# Altium footprint library FT-M6678DSK_28nm_0920.PcbLib: 78 footprints (part 1 of 6)
Each footprint in its own frame and in the unit in brackets; x right, y up, seen from the top. Pads: shape width x height; smd on the part's side, far side on the other; paste and mask are expansions set on the pad; w line width, h text height; cw(c..) or ccw(c..) is an arc to the next point about the centre after c.
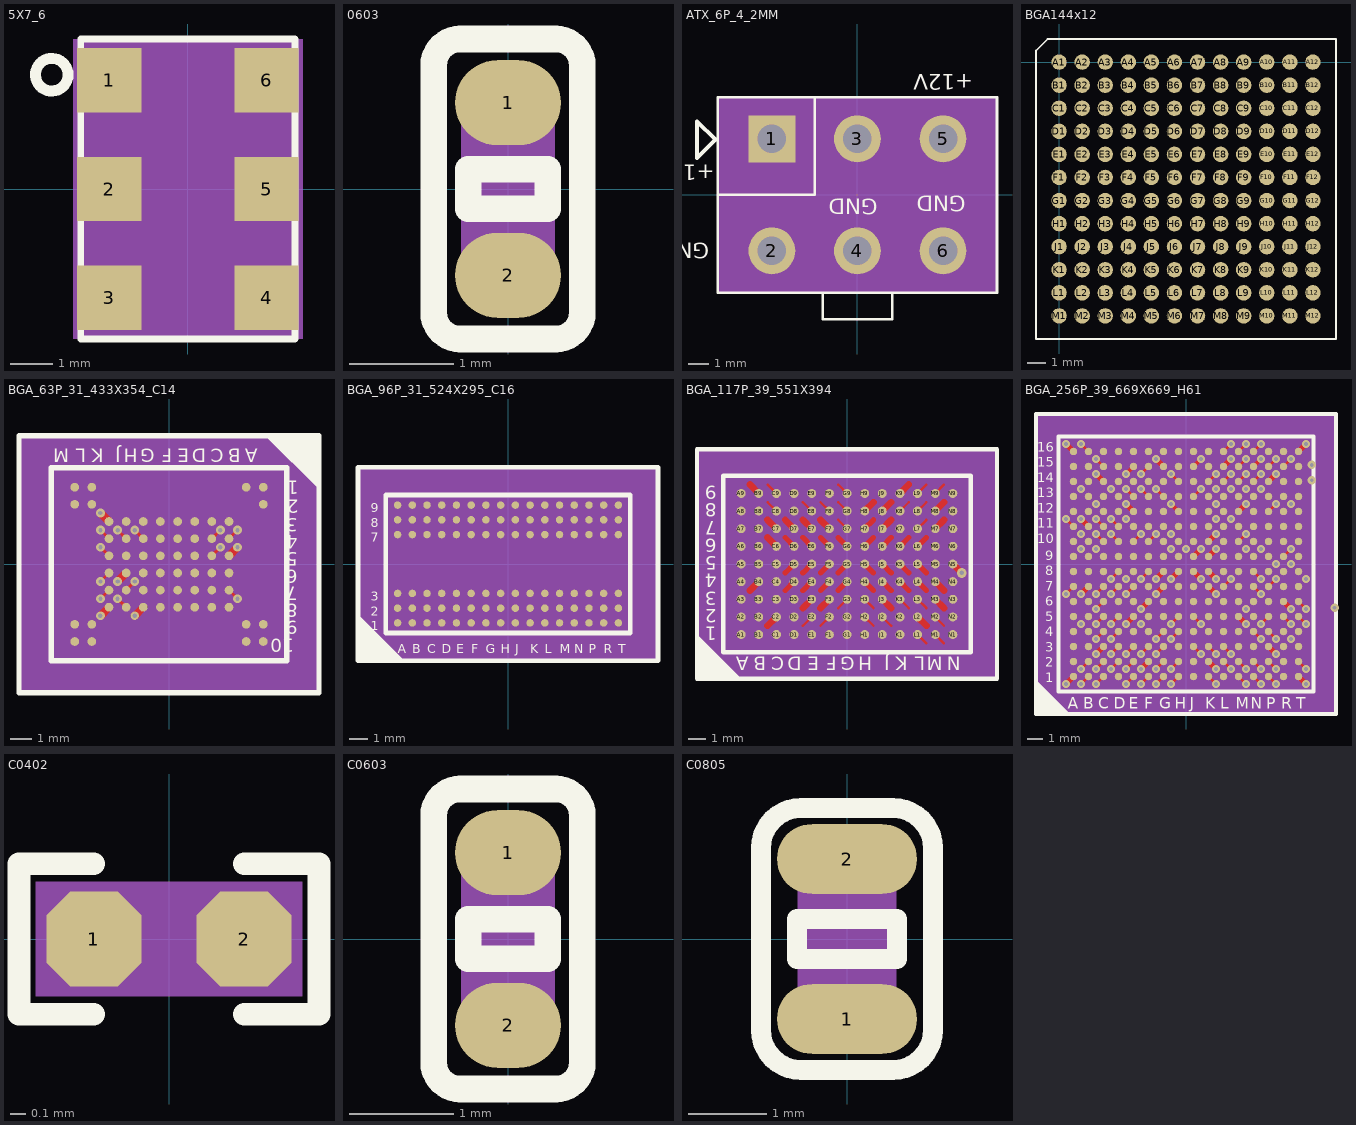
[diagram p0: the footprints below, top view; thin cyan lines are the x and y axes]

## 5X7_6 [mm] "5X7_6"
pads (6):
  rect 1.5x1.5 smd: 1(-1.837,2.54) 2(-1.837,0) 3(-1.837,-2.54) 4(1.837,-2.54) 5(1.837,0) 6(1.837,2.54)
Top Overlay:
  circle w0.254: c-3.175,2.667 r0.381
  lines w0.152: -2.5,-3.5 2.5,-3.5 2.5,3.5 -2.5,3.5 -2.5,-3.5
Mechanical 11:
  text "6" at 2.04,2.54 h0.51
  text "5" at 2.04,0 h0.51
  text "4" at 2.04,-2.54 h0.51
  text "3" at -1.634,-2.54 h0.51
  text "2" at -1.634,0 h0.51
  text "1" at -1.634,2.54 h0.51
Mechanical 15:
  region: -2.675,-3.5 2.675,-3.5 2.675,3.5 -2.675,3.5
Mechanical 16:
  pour cut-out: -2.675,-3.5 2.675,-3.5 2.675,3.5 -2.675,3.5
  lines w0.025: -2.5,-3.5 2.5,-3.5 2.5,3.5 -2.5,3.5 -2.5,-3.5
3D body: height 3.81, standoff 0, extent -2.675,-3.5 2.675,3.5

## 0603 [mil]
pads (2):
  oval 40x32 smd: 1(0,32.5) 2(0,-32.5)
Top Overlay:
  lines w10: -28,-46.5 ccw(c-18,-46.5) -18,-56.5 18,-56.5 ccw(c18,-46.5) 28,-46.5 28,46.5 ccw(c18,46.5) 18,56.5 -18,56.5 ccw(c-18,46.5) -28,46.5 -28,-46.5 ; -15,-7.5 -15,7.5 15,7.5 15,-7.5 -15,-7.5
Mechanical 11:
  text "1" at 4.72,32.5 h11.81
  text "2" at 4.72,-32.5 h11.81
Mechanical 12:
  lines w1: -17.13,-33.46 -17.13,33.46 17.13,33.46 17.13,-33.46 -17.13,-33.46
Mechanical 15:
  region: -17.13,-33.46 17.13,-33.46 17.13,33.46 -17.13,33.46
3D body: height 150, standoff 0, extent -17.13,-33.46 17.13,33.46

## ATX_6P_4_2MM [mm] "ATX_6P_4_2MM"
pads (6):
  rect 2.3x2.3 hole 1.4: 1(-4.2,2.75)
  round 2.3 hole 1.4: 2(-4.2,-2.75) 3(0,2.75) 4(0,-2.75) 5(4.2,2.75) 6(4.2,-2.75)
Top Overlay:
  lines w0.127: -6.85,0 -2.1,0 -2.1,4.8 ; -1.7,-4.8 -1.7,-6.1 1.7,-6.1 1.7,-4.8 ; -6.85,-4.8 6.85,-4.8 6.85,4.8 -6.85,4.8 -6.85,-4.8
  lines w0.2: -7.878,1.808 -7.878,3.608 -6.978,2.708 -7.878,1.808
  text "+12V" at 5.687,5.914 h0.76
  text "GND" at -7.267,-2.341 h0.76
  text "GND" at 0.988,-0.182 h0.76
  text "+12V" at -7.013,1.469 h0.76
  text "GND" at 5.306,-0.055 h0.76
Mechanical 11:
  text "1" at -4.08,2.75 h0.3
  text "3" at 0.12,2.75 h0.3
  text "5" at 4.32,2.75 h0.3
  text "2" at -4.08,-2.75 h0.3
  text "4" at 0.12,-2.75 h0.3
  text "6" at 4.32,-2.75 h0.3
Mechanical 15:
  region: -6.85,-4.8 6.85,-4.8 6.85,4.8 -6.85,4.8
3D body: height 3.81, standoff 0, extent -6.85,-4.8 6.85,4.8

## BGA144x12 [mm]
pads (144):
  round 0.85 smd: A1(0,0) A2(1.27,0) A3(2.54,0) A4(3.81,0) A5(5.08,0) A6(6.35,0) A7(7.62,0) A8(8.89,0) A9(10.16,0) A10(11.43,0) A11(12.7,0) A12(13.97,0) B1(0,-1.27) B2(1.27,-1.27) B3(2.54,-1.27) B4(3.81,-1.27) B5(5.08,-1.27) B6(6.35,-1.27) B7(7.62,-1.27) B8(8.89,-1.27) B9(10.16,-1.27) B10(11.43,-1.27) B11(12.7,-1.27) B12(13.97,-1.27) C1(0,-2.54) C2(1.27,-2.54) C3(2.54,-2.54) C4(3.81,-2.54) C5(5.08,-2.54) C6(6.35,-2.54) C7(7.62,-2.54) C8(8.89,-2.54) C9(10.16,-2.54) C10(11.43,-2.54) C11(12.7,-2.54) C12(13.97,-2.54) D1(0,-3.81) D2(1.27,-3.81) D3(2.54,-3.81) D4(3.81,-3.81) D5(5.08,-3.81) D6(6.35,-3.81) D7(7.62,-3.81) D8(8.89,-3.81) D9(10.16,-3.81) D10(11.43,-3.81) D11(12.7,-3.81) D12(13.97,-3.81) E1(0,-5.08) E2(1.27,-5.08) E3(2.54,-5.08) E4(3.81,-5.08) E5(5.08,-5.08) E6(6.35,-5.08) E7(7.62,-5.08) E8(8.89,-5.08) E9(10.16,-5.08) E10(11.43,-5.08) E11(12.7,-5.08) E12(13.97,-5.08) F1(0,-6.35) F2(1.27,-6.35) F3(2.54,-6.35) F4(3.81,-6.35) F5(5.08,-6.35) F6(6.35,-6.35) F7(7.62,-6.35) F8(8.89,-6.35) F9(10.16,-6.35) F10(11.43,-6.35) F11(12.7,-6.35) F12(13.97,-6.35) G1(0,-7.62) G2(1.27,-7.62) G3(2.54,-7.62) G4(3.81,-7.62) G5(5.08,-7.62) G6(6.35,-7.62) G7(7.62,-7.62) G8(8.89,-7.62) G9(10.16,-7.62) G10(11.43,-7.62) G11(12.7,-7.62) G12(13.97,-7.62) H1(0,-8.89) H2(1.27,-8.89) H3(2.54,-8.89) H4(3.81,-8.89) H5(5.08,-8.89) H6(6.35,-8.89) H7(7.62,-8.89) H8(8.89,-8.89) H9(10.16,-8.89) H10(11.43,-8.89) H11(12.7,-8.89) H12(13.97,-8.89) J1(0,-10.16) J2(1.27,-10.16) J3(2.54,-10.16) J4(3.81,-10.16) J5(5.08,-10.16) J6(6.35,-10.16) J7(7.62,-10.16) J8(8.89,-10.16) J9(10.16,-10.16) J10(11.43,-10.16) J11(12.7,-10.16) J12(13.97,-10.16) K1(0,-11.43) K2(1.27,-11.43) K3(2.54,-11.43) K4(3.81,-11.43) K5(5.08,-11.43) K6(6.35,-11.43) K7(7.62,-11.43) K8(8.89,-11.43) K9(10.16,-11.43) K10(11.43,-11.43) K11(12.7,-11.43) K12(13.97,-11.43) L1(0,-12.7) L2(1.27,-12.7) L3(2.54,-12.7) L4(3.81,-12.7) L5(5.08,-12.7) L6(6.35,-12.7) L7(7.62,-12.7) L8(8.89,-12.7) L9(10.16,-12.7) L10(11.43,-12.7) L11(12.7,-12.7) L12(13.97,-12.7) M1(0,-13.97) M2(1.27,-13.97) M3(2.54,-13.97) M4(3.81,-13.97) M5(5.08,-13.97) M6(6.35,-13.97) M7(7.62,-13.97) M8(8.89,-13.97) M9(10.16,-13.97) M10(11.43,-13.97) M11(12.7,-13.97) M12(13.97,-13.97)
Top Overlay:
  lines w0.1: -1.27,-15.24 -1.27,0.635 -0.635,1.27 15.24,1.27 15.24,-15.24 -1.27,-15.24

## BGA_63P_31_433X354_C14 [mil] "BGA_63P_31_433X354_C14"
pads (63):
  round 16 smd: A1(173.23,141.73) A2(173.23,110.24) A9(173.23,-110.24) A10(173.23,-141.73) B1(141.73,141.73) B9(141.73,-110.24) B10(141.73,-141.73) C3(110.24,78.74) C4(110.24,47.24) C5(110.24,15.75) C6(110.24,-15.75) C7(110.24,-47.24) C8(110.24,-78.74) D3(78.74,78.74) D4(78.74,47.24) D5(78.74,15.75) D6(78.74,-15.75) D7(78.74,-47.24) D8(78.74,-78.74) E3(47.24,78.74) E4(47.24,47.24) E5(47.24,15.75) E6(47.24,-15.75) E7(47.24,-47.24) E8(47.24,-78.74) F3(15.75,78.74) F4(15.75,47.24) F5(15.75,15.75) F6(15.75,-15.75) F7(15.75,-47.24) F8(15.75,-78.74) G3(-15.75,78.74) G4(-15.75,47.24) G5(-15.75,15.75) G6(-15.75,-15.75) G7(-15.75,-47.24) G8(-15.75,-78.74) H3(-47.24,78.74) H4(-47.24,47.24) H5(-47.24,15.75) H6(-47.24,-15.75) H7(-47.24,-47.24) H8(-47.24,-78.74) J3(-78.74,78.74) J4(-78.74,47.24) J5(-78.74,15.75) J6(-78.74,-15.75) J7(-78.74,-47.24) J8(-78.74,-78.74) K3(-110.24,78.74) K4(-110.24,47.24) K5(-110.24,15.75) K6(-110.24,-15.75) K7(-110.24,-47.24) K8(-110.24,-78.74) L1(-141.73,141.73) L2(-141.73,110.24) L9(-141.73,-110.24) L10(-141.73,-141.73) M1(-173.23,141.73) M2(-173.23,110.24) M9(-173.23,-110.24) M10(-173.23,-141.73)
via -125.98,62.98 diameter 16 hole 8
via -94.48,62.98 diameter 16 hole 8
via 94.48,31.49 diameter 16 hole 8
via 125.98,62.98 diameter 16 hole 8
via -62.98,62.98 diameter 16 hole 8
via -94.49,-62.99 diameter 16 hole 8
via -125.98,-62.98 diameter 16 hole 8
via -62.98,-31.48 diameter 16 hole 8
via -125.98,-31.49 diameter 16 hole 8
via -125.98,31.49 diameter 16 hole 8
via -94.48,-31.49 diameter 16 hole 8
via -62.98,-94.48 diameter 16 hole 8
via -125.99,94.49 diameter 16 hole 8
via -125.99,-94.49 diameter 16 hole 8
via 125.98,31.49 diameter 16 hole 8
via 125.98,-62.98 diameter 16 hole 8
via 94.48,62.98 diameter 16 hole 8
Top Layer:
  lines w5.4: -125.98,-62.98 -110.24,-47.24 ; -125.98,-31.49 -110.24,-15.75 ; -125.98,31.49 -110.24,15.75 ; -125.98,62.98 -110.24,47.24 ; -94.49,-62.99 -78.74,-78.74 ; -94.48,62.98 -78.74,47.24 ; -78.74,-47.24 -62.98,-31.48 ; -62.98,62.98 -47.24,47.24 ; 78.74,15.75 94.48,31.49 ; 78.74,47.24 94.48,62.98 ; 110.24,-47.24 125.98,-62.98 ; 110.24,47.24 125.98,62.98
  lines w15: -125.99,-94.49 -110.24,-78.74 ; -125.99,94.49 -110.24,78.74 ; -94.48,-31.49 -78.74,-15.75 ; -62.98,-94.48 -47.24,-78.74 ; 110.24,15.75 125.98,31.49
Top Overlay:
  pour cut-out: 275.59,236.22 177.17,236.22 275.59,137.8
  lines w10: -275.59,-236.22 -275.59,236.22 275.59,236.22 275.59,-236.22 -275.59,-236.22 ; -216.54,-177.17 -216.54,177.17 216.54,177.17 216.54,-177.17 -216.54,-177.17
  text "A" at 163.23,212.6 h25
  text "1" at 238.33,153.33 h25
  text "B" at 131.73,212.6 h25
  text "C" at 100.24,212.6 h25
  text "D" at 68.74,212.6 h25
  text "E" at 37.24,212.6 h25
  text "F" at 5.75,212.6 h25
  text "G" at -25.75,212.6 h25
  text "H" at -57.24,212.6 h25
  text "J" at -88.74,212.6 h25
  text "K" at -120.24,212.6 h25
  text "L" at -151.73,212.6 h25
  text "M" at -183.23,212.6 h25
  text "2" at 238.33,118.33 h25
  text "3" at 236.36,84.94 h25
  text "4" at 236.36,53.45 h25
  text "5" at 236.36,21.95 h25
  text "6" at 236.36,-9.54 h25
  text "7" at 236.36,-41.04 h25
  text "8" at 236.36,-72.54 h25
  text "9" at 236.36,-104.03 h25
  text "10" at 230,-136.67 h25
Mechanical 1:
  lines w1: -216.54,-177.17 216.54,-177.17 216.54,177.17 -216.54,177.17 -216.54,-177.17
Mechanical 11:
  text "A1" at 153.23,141.73 h25
  text "L9" at -161.73,-110.24 h25
  text "L10" at -171.73,-141.73 h25
  text "M1" at -193.23,141.73 h25
  text "M2" at -193.23,110.24 h25
  text "M9" at -193.23,-110.24 h25
  text "M10" at -203.23,-141.73 h25
  text "A2" at 153.23,110.24 h25
  text "A9" at 153.23,-110.24 h25
  text "A10" at 143.23,-141.73 h25
  text "B1" at 121.73,141.73 h25
  text "B9" at 121.73,-110.24 h25
  text "B10" at 111.73,-141.73 h25
  text "L1" at -161.73,141.73 h25
  text "L2" at -161.73,110.24 h25
  text "D3" at 58.74,78.74 h25
  text "E8" at 27.24,-78.74 h25
  text "F3" at -4.25,78.74 h25
  text "F4" at -4.25,47.24 h25
  text "F5" at -4.25,15.75 h25
  text "F6" at -4.25,-15.75 h25
  text "F7" at -4.25,-47.24 h25
  text "F8" at -4.25,-78.74 h25
  text "G3" at -35.75,78.74 h25
  text "G4" at -35.75,47.24 h25
  text "G5" at -35.75,15.75 h25
  text "D6" at 58.74,-15.75 h25
  text "G6" at -35.75,-15.75 h25
  text "G7" at -35.75,-47.24 h25
  text "G8" at -35.75,-78.74 h25
  text "H3" at -67.24,78.74 h25
  text "H5" at -67.24,15.75 h25
  text "H6" at -67.24,-15.75 h25
  text "H7" at -67.24,-47.24 h25
  text "J3" at -98.74,78.74 h25
  text "J5" at -98.74,15.75 h25
  text "D7" at 58.74,-47.24 h25
  text "D8" at 58.74,-78.74 h25
  text "E3" at 27.24,78.74 h25
  text "E4" at 27.24,47.24 h25
  text "E5" at 27.24,15.75 h25
  text "E6" at 27.24,-15.75 h25
  text "E7" at 27.24,-47.24 h25
  text "K4" at -130.24,47.24 h25
  text "J4" at -98.74,47.24 h25
  text "D5" at 58.74,15.75 h25
  text "C4" at 90.24,47.24 h25
  text "H4" at -67.24,47.24 h25
  text "J8" at -98.74,-78.74 h25
  text "K7" at -130.24,-47.24 h25
  text "J7" at -98.74,-47.24 h25
  text "K6" at -130.24,-15.75 h25
  text "K5" at -130.24,15.75 h25
  text "H8" at -67.24,-78.74 h25
  text "J6" at -98.74,-15.75 h25
  text "C8" at 90.24,-78.74 h25
  text "C3" at 90.24,78.74 h25
  text "C6" at 90.24,-15.75 h25
  text "K8" at -130.24,-78.74 h25
  text "C5" at 90.24,15.75 h25
  text "K3" at -130.24,78.74 h25
  text "C7" at 90.24,-47.24 h25
  text "D4" at 58.74,47.24 h25
Mechanical 12:
  lines w1: -275.59,-236.22 -275.59,236.22 275.59,236.22 275.59,-236.22 -275.59,-236.22
Mechanical 13:
  region: 275.59,236.22 275.59,-236.22 -275.59,-236.22 -275.59,236.22
Mechanical 14:
  text ".Designator" at -40,0 h50
3D body: height 150, standoff 0, extent -275.59,-236.22 275.59,236.22

## BGA_96P_31_524X295_C16 [mil] "BGA_96P_31_524X295_C16"
pads (96):
  round 16 smd: A1(-236.22,-125.98) A2(-236.22,-94.49) A3(-236.22,-62.99) A7(-236.22,62.99) A8(-236.22,94.49) A9(-236.22,125.98) B1(-204.72,-125.98) B2(-204.72,-94.49) B3(-204.72,-62.99) B7(-204.72,62.99) B8(-204.72,94.49) B9(-204.72,125.98) C1(-173.23,-125.98) C2(-173.23,-94.49) C3(-173.23,-62.99) C7(-173.23,62.99) C8(-173.23,94.49) C9(-173.23,125.98) D1(-141.73,-125.98) D2(-141.73,-94.49) D3(-141.73,-62.99) D7(-141.73,62.99) D8(-141.73,94.49) D9(-141.73,125.98) E1(-110.24,-125.98) E2(-110.24,-94.49) E3(-110.24,-62.99) E7(-110.24,62.99) E8(-110.24,94.49) E9(-110.24,125.98) F1(-78.74,-125.98) F2(-78.74,-94.49) F3(-78.74,-62.99) F7(-78.74,62.99) F8(-78.74,94.49) F9(-78.74,125.98) G1(-47.24,-125.98) G2(-47.24,-94.49) G3(-47.24,-62.99) G7(-47.24,62.99) G8(-47.24,94.49) G9(-47.24,125.98) H1(-15.75,-125.98) H2(-15.75,-94.49) H3(-15.75,-62.99) H7(-15.75,62.99) H8(-15.75,94.49) H9(-15.75,125.98) J1(15.75,-125.98) J2(15.75,-94.49) J3(15.75,-62.99) J7(15.75,62.99) J8(15.75,94.49) J9(15.75,125.98) K1(47.24,-125.98) K2(47.24,-94.49) K3(47.24,-62.99) K7(47.24,62.99) K8(47.24,94.49) K9(47.24,125.98) L1(78.74,-125.98) L2(78.74,-94.49) L3(78.74,-62.99) L7(78.74,62.99) L8(78.74,94.49) L9(78.74,125.98) M1(110.24,-125.98) M2(110.24,-94.49) M3(110.24,-62.99) M7(110.24,62.99) M8(110.24,94.49) M9(110.24,125.98) N1(141.73,-125.98) N2(141.73,-94.49) N3(141.73,-62.99) N7(141.73,62.99) N8(141.73,94.49) N9(141.73,125.98) P1(173.23,-125.98) P2(173.23,-94.49) P3(173.23,-62.99) P7(173.23,62.99) P8(173.23,94.49) P9(173.23,125.98) R1(204.72,-125.98) R2(204.72,-94.49) R3(204.72,-62.99) R7(204.72,62.99) R8(204.72,94.49) R9(204.72,125.98) T1(236.22,-125.98) T2(236.22,-94.49) T3(236.22,-62.99) T7(236.22,62.99) T8(236.22,94.49) T9(236.22,125.98)
Top Overlay:
  pour cut-out: -320.87,-206.69 -222.44,-206.69 -320.87,-108.27
  lines w10: -320.87,-206.69 320.87,-206.69 320.87,206.69 -320.87,206.69 -320.87,-206.69 ; -261.81,-147.64 261.81,-147.64 261.81,147.64 -261.81,147.64 -261.81,-147.64
  text "A" at -236.22,-190.95 h19.69
  text "1" at -293.31,-141.74 h19.69
  text "B" at -204.72,-190.95 h19.69
  text "C" at -173.23,-190.95 h19.69
  text "D" at -141.73,-190.95 h19.69
  text "E" at -110.24,-190.95 h19.69
  text "F" at -78.74,-190.95 h19.69
  text "G" at -47.24,-190.95 h19.69
  text "H" at -15.75,-190.95 h19.69
  text "J" at 15.75,-190.95 h19.69
  text "K" at 47.24,-190.95 h19.69
  text "L" at 78.74,-190.95 h19.69
  text "M" at 110.24,-190.95 h19.69
  text "N" at 141.73,-190.95 h19.69
  text "P" at 173.23,-190.95 h19.69
  text "R" at 204.72,-190.95 h19.69
  text "T" at 236.22,-190.95 h19.69
  text "2" at -293.31,-110.24 h19.69
  text "3" at -293.31,-78.75 h19.69
  text "7" at -293.31,47.24 h19.69
  text "8" at -293.31,78.73 h19.69
  text "9" at -293.31,110.23 h19.69
Mechanical 1:
  lines w1: -261.81,-147.64 261.81,-147.64 261.81,147.64 -261.81,147.64 -261.81,-147.64
Mechanical 11:
  text "L8" at 78.74,85.04 h11.81
  text "M2" at 110.24,-103.94 h11.81
  text "C2" at -173.23,-103.94 h11.81
  text "A7" at -236.22,53.54 h11.81
  text "L7" at 78.74,53.54 h11.81
  text "A2" at -236.22,-103.94 h11.81
  text "R7" at 204.72,53.54 h11.81
  text "B8" at -204.72,85.04 h11.81
  text "N7" at 141.73,53.54 h11.81
  text "A3" at -236.22,-72.44 h11.81
  text "K3" at 47.24,-72.44 h11.81
  text "F3" at -78.74,-72.44 h11.81
  text "L3" at 78.74,-72.44 h11.81
  text "H3" at -15.75,-72.44 h11.81
  text "J3" at 15.75,-72.44 h11.81
  text "N2" at 141.73,-103.94 h11.81
  text "H8" at -15.75,85.04 h11.81
  text "P8" at 173.23,85.04 h11.81
  text "J7" at 15.75,53.54 h11.81
  text "K9" at 47.24,116.53 h11.81
  text "G2" at -47.24,-103.94 h11.81
  text "P2" at 173.23,-103.94 h11.81
  text "L2" at 78.74,-103.94 h11.81
  text "M8" at 110.24,85.04 h11.81
  text "H1" at -15.75,-135.43 h11.81
  text "H7" at -15.75,53.54 h11.81
  text "T9" at 236.22,116.53 h11.81
  text "P9" at 173.23,116.53 h11.81
  text "M9" at 110.24,116.53 h11.81
  text "G9" at -47.24,116.53 h11.81
  text "F9" at -78.74,116.53 h11.81
  text "B9" at -204.72,116.53 h11.81
  text "A9" at -236.22,116.53 h11.81
  text "J8" at 15.75,85.04 h11.81
  text "G8" at -47.24,85.04 h11.81
  text "E8" at -110.24,85.04 h11.81
  text "D8" at -141.73,85.04 h11.81
  text "B3" at -204.72,-72.44 h11.81
  text "J2" at 15.75,-103.94 h11.81
  text "E2" at -110.24,-103.94 h11.81
  text "T1" at 236.22,-135.43 h11.81
  text "P1" at 173.23,-135.43 h11.81
  text "M1" at 110.24,-135.43 h11.81
  text "G1" at -47.24,-135.43 h11.81
  text "E1" at -110.24,-135.43 h11.81
  text "D1" at -141.73,-135.43 h11.81
  text "B1" at -204.72,-135.43 h11.81
  text "K7" at 47.24,53.54 h11.81
  text "E7" at -110.24,53.54 h11.81
  text "K1" at 47.24,-135.43 h11.81
  text "R8" at 204.72,85.04 h11.81
  text "D3" at -141.73,-72.44 h11.81
  text "R2" at 204.72,-103.94 h11.81
  text "D7" at -141.73,53.54 h11.81
  text "C3" at -173.23,-72.44 h11.81
  text "E3" at -110.24,-72.44 h11.81
  text "N3" at 141.73,-72.44 h11.81
  text "M7" at 110.24,53.54 h11.81
  text "F7" at -78.74,53.54 h11.81
  text "T3" at 236.22,-72.44 h11.81
  text "T2" at 236.22,-103.94 h11.81
  text "F2" at -78.74,-103.94 h11.81
  text "P7" at 173.23,53.54 h11.81
  text "G3" at -47.24,-72.44 h11.81
  text "F8" at -78.74,85.04 h11.81
  text "P3" at 173.23,-72.44 h11.81
  text "C7" at -173.23,53.54 h11.81
  text "B7" at -204.72,53.54 h11.81
  text "N8" at 141.73,85.04 h11.81
  text "R9" at 204.72,116.53 h11.81
  text "N9" at 141.73,116.53 h11.81
  text "H9" at -15.75,116.53 h11.81
  text "E9" at -110.24,116.53 h11.81
  text "D9" at -141.73,116.53 h11.81
  text "C9" at -173.23,116.53 h11.81
  text "K8" at 47.24,85.04 h11.81
  text "A8" at -236.22,85.04 h11.81
  text "G7" at -47.24,53.54 h11.81
  text "K2" at 47.24,-103.94 h11.81
  text "H2" at -15.75,-103.94 h11.81
  text "D2" at -141.73,-103.94 h11.81
  text "B2" at -204.72,-103.94 h11.81
  text "R1" at 204.72,-135.43 h11.81
  text "N1" at 141.73,-135.43 h11.81
  text "F1" at -78.74,-135.43 h11.81
  text "C1" at -173.23,-135.43 h11.81
  text "A1" at -236.22,-135.43 h11.81
  text "T8" at 236.22,85.04 h11.81
  text "T7" at 236.22,53.54 h11.81
  text "M3" at 110.24,-72.44 h11.81
  text "R3" at 204.72,-72.44 h11.81
  text "C8" at -173.23,85.04 h11.81
  text "L9" at 78.74,116.53 h11.81
  text "L1" at 78.74,-135.43 h11.81
  text "J9" at 15.75,116.53 h11.81
  text "J1" at 15.75,-135.43 h11.81
Mechanical 12:
  lines w1: -320.87,-206.69 320.87,-206.69 320.87,206.69 -320.87,206.69 -320.87,-206.69
Mechanical 15:
  region: -320.87,-206.69 320.87,-206.69 320.87,206.69 -320.87,206.69
3D body: height 150, standoff 0, extent -320.87,-206.69 320.87,206.69

## BGA_117P_39_551X394 [mil] "BGA_117P_39_551X394"
pads (117):
  round 20 smd: A1(-236.22,-157.48) A2(-236.22,-118.11) A3(-236.22,-78.74) A4(-236.22,-39.37) A5(-236.22,0) A6(-236.22,39.37) A7(-236.22,78.74) A8(-236.22,118.11) A9(-236.22,157.48) B1(-196.85,-157.48) B2(-196.85,-118.11) B3(-196.85,-78.74) B4(-196.85,-39.37) B5(-196.85,0) B6(-196.85,39.37) B7(-196.85,78.74) B8(-196.85,118.11) B9(-196.85,157.48) C1(-157.48,-157.48) C2(-157.48,-118.11) C3(-157.48,-78.74) C4(-157.48,-39.37) C5(-157.48,0) C6(-157.48,39.37) C7(-157.48,78.74) C8(-157.48,118.11) C9(-157.48,157.48) D1(-118.11,-157.48) D2(-118.11,-118.11) D3(-118.11,-78.74) D4(-118.11,-39.37) D5(-118.11,0) D6(-118.11,39.37) D7(-118.11,78.74) D8(-118.11,118.11) D9(-118.11,157.48) E1(-78.74,-157.48) E2(-78.74,-118.11) E3(-78.74,-78.74) E4(-78.74,-39.37) E5(-78.74,0) E6(-78.74,39.37) E7(-78.74,78.74) E8(-78.74,118.11) E9(-78.74,157.48) F1(-39.37,-157.48) F2(-39.37,-118.11) F3(-39.37,-78.74) F4(-39.37,-39.37) F5(-39.37,0) F6(-39.37,39.37) F7(-39.37,78.74) F8(-39.37,118.11) F9(-39.37,157.48) G1(0,-157.48) G2(0,-118.11) G3(0,-78.74) G4(0,-39.37) G5(0,0) G6(0,39.37) G7(0,78.74) G8(0,118.11) G9(0,157.48) H1(39.37,-157.48) H2(39.37,-118.11) H3(39.37,-78.74) H4(39.37,-39.37) H5(39.37,0) H6(39.37,39.37) H7(39.37,78.74) H8(39.37,118.11) H9(39.37,157.48) J1(78.74,-157.48) J2(78.74,-118.11) J3(78.74,-78.74) J4(78.74,-39.37) J5(78.74,0) J6(78.74,39.37) J7(78.74,78.74) J8(78.74,118.11) J9(78.74,157.48) K1(118.11,-157.48) K2(118.11,-118.11) K3(118.11,-78.74) K4(118.11,-39.37) K5(118.11,0) K6(118.11,39.37) K7(118.11,78.74) K8(118.11,118.11) K9(118.11,157.48) L1(157.48,-157.48) L2(157.48,-118.11) L3(157.48,-78.74) L4(157.48,-39.37) L5(157.48,0) L6(157.48,39.37) L7(157.48,78.74) L8(157.48,118.11) L9(157.48,157.48) M1(196.85,-157.48) M2(196.85,-118.11) M3(196.85,-78.74) M4(196.85,-39.37) M5(196.85,0) M6(196.85,39.37) M7(196.85,78.74) M8(196.85,118.11) M9(196.85,157.48) N1(236.22,-157.48) N2(236.22,-118.11) N3(236.22,-78.74) N4(236.22,-39.37) N5(236.22,0) N6(236.22,39.37) N7(236.22,78.74) N8(236.22,118.11) N9(236.22,157.48)
via 255.9,-19.68 diameter 22 hole 10
Top Layer:
  lines w5.2: -177.16,137.79 -157.48,118.11 ; -177.16,177.16 -157.48,157.48 ; -98.42,-137.79 -78.74,-118.11 ; -98.42,137.79 -78.74,118.11 ; -59.05,-137.79 -39.37,-118.11 ; -59.05,137.79 -39.37,118.11 ; -19.68,-98.42 0,-78.74 ; -19.68,98.42 0,78.74 ; -19.68,137.79 0,118.11 ; -19.68,177.16 0,157.48 ; 39.37,-118.11 59.05,-137.79 ; 39.37,-78.74 59.05,-98.42 ; 78.74,-118.11 98.42,-137.79 ; 118.11,-78.74 137.79,-98.42 ; 118.11,118.11 137.79,137.79 ; 157.48,-157.48 177.16,-177.16 ; 157.48,-78.74 177.16,-98.42 ; 157.48,78.74 177.16,98.42 ; 157.48,118.11 177.16,137.79 ; 157.48,157.48 177.16,177.16 ; 196.85,-157.48 216.53,-177.16 ; 196.85,-118.11 216.53,-137.79 ; 196.85,157.48 216.53,177.16
  lines w12: -137.79,-59.05 -118.11,-39.37 ; -137.79,-19.68 -118.11,0 ; -137.79,59.05 -118.11,39.37 ; -98.42,-59.05 -78.74,-39.37 ; -98.42,-19.68 -78.74,0 ; -98.42,59.05 -78.74,39.37 ; -59.05,-59.05 -39.37,-39.37 ; -59.05,-19.68 -39.37,0 ; -59.05,59.05 -39.37,39.37 ; -19.68,-59.05 0,-39.37 ; -19.68,-19.68 0,0 ; -19.68,59.05 0,39.37 ; 39.37,-39.37 59.05,-59.05 ; 39.37,0 59.05,-19.68 ; 39.37,39.37 59.05,59.05 ; 39.37,78.74 59.05,98.42 ; 78.74,-39.37 98.42,-59.05 ; 78.74,0 98.42,-19.68 ; 78.74,39.37 98.42,59.05 ; 118.11,-39.37 137.79,-59.05 ; 118.11,0 137.79,-19.68 ; 118.11,39.37 137.79,59.05 ; 157.48,-39.37 177.16,-59.05 ; 157.48,0 177.16,-19.68 ; 157.48,39.37 177.16,59.05
  lines w15: -216.53,-59.05 -196.85,-39.37 ; -216.53,177.16 -196.85,157.48 ; -177.16,-137.79 -157.48,-118.11 ; -177.16,59.05 -157.48,39.37 ; -177.16,98.42 -157.48,78.74 ; -137.79,98.42 -118.11,78.74 ; -98.42,-98.42 -78.74,-78.74 ; -98.42,98.42 -78.74,78.74 ; -59.05,-98.42 -39.37,-78.74 ; -59.05,98.42 -39.37,78.74 ; 39.37,118.11 59.05,137.79 ; 78.74,-78.74 98.42,-98.42 ; 78.74,78.74 98.42,98.42 ; 78.74,118.11 98.42,137.79 ; 118.11,157.48 137.79,177.16 ; 157.48,-118.11 177.16,-137.79 ; 196.85,-78.74 216.53,-98.42 ; 196.85,-39.37 216.53,-59.05 ; 196.85,78.74 216.53,98.42 ; 196.85,118.11 216.53,137.79 ; 236.22,0 255.9,-19.68
Top Overlay:
  pour cut-out: -334.65,-255.91 -236.22,-255.91 -334.65,-157.48
  lines w10: -334.65,-255.91 -334.65,255.91 334.65,255.91 334.65,-255.91 -334.65,-255.91 ; -275.59,-196.85 -275.59,196.85 275.59,196.85 275.59,-196.85 -275.59,-196.85
  text "9" at -290.09,174.61 h30
  text "8" at -290.09,135.24 h30
  text "7" at -290.09,95.87 h30
  text "6" at -290.09,56.5 h30
  text "5" at -290.09,17.13 h30
  text "4" at -290.09,-22.24 h30
  text "3" at -290.09,-61.61 h30
  text "2" at -290.09,-100.98 h30
  text "N" at 253.22,-207.28 h30
  text "M" at 213.85,-207.28 h30
  text "L" at 174.48,-207.28 h30
  text "K" at 135.11,-207.28 h30
  text "J" at 95.74,-207.28 h30
  text "H" at 56.37,-207.28 h30
  text "G" at 17,-207.28 h30
  text "F" at -22.37,-207.28 h30
  text "E" at -61.74,-207.28 h30
  text "D" at -101.11,-207.28 h30
  text "C" at -140.48,-207.28 h30
  text "B" at -179.85,-207.28 h30
  text "1" at -290.09,-140.35 h30
  text "A" at -219.22,-207.28 h30
Mechanical 1:
  lines w1: -275.59,-196.85 -275.59,196.85 275.59,196.85 275.59,-196.85 -275.59,-196.85
Mechanical 11:
  text "B5" at -187.4,0 h11.81
  text "M5" at 206.3,0 h11.81
  text "M6" at 206.3,39.37 h11.81
  text "G1" at 9.45,-157.48 h11.81
  text "K7" at 127.56,78.74 h11.81
  text "B2" at -187.4,-118.11 h11.81
  text "D3" at -108.66,-78.74 h11.81
  text "C3" at -148.03,-78.74 h11.81
  text "B3" at -187.4,-78.74 h11.81
  text "C4" at -148.03,-39.37 h11.81
  text "A1" at -226.77,-157.48 h11.81
  text "A2" at -226.77,-118.11 h11.81
  text "C5" at -148.03,0 h11.81
  text "C1" at -148.03,-157.48 h11.81
  text "B1" at -187.4,-157.48 h11.81
  text "D2" at -108.66,-118.11 h11.81
  text "F8" at -29.92,118.11 h11.81
  text "D8" at -108.66,118.11 h11.81
  text "A8" at -226.77,118.11 h11.81
  text "J1" at 88.19,-157.48 h11.81
  text "A7" at -226.77,78.74 h11.81
  text "G8" at 9.45,118.11 h11.81
  text "E8" at -69.29,118.11 h11.81
  text "K8" at 127.56,118.11 h11.81
  text "G7" at 9.45,78.74 h11.81
  text "F1" at -29.92,-157.48 h11.81
  text "A3" at -226.77,-78.74 h11.81
  text "H3" at 48.82,-78.74 h11.81
  text "H8" at 48.82,118.11 h11.81
  text "E2" at -69.29,-118.11 h11.81
  text "A4" at -226.77,-39.37 h11.81
  text "M9" at 206.3,157.48 h11.81
  text "M2" at 206.3,-118.11 h11.81
  text "E1" at -69.29,-157.48 h11.81
  text "G2" at 9.45,-118.11 h11.81
  text "G9" at 9.45,157.48 h11.81
  text "E9" at -69.29,157.48 h11.81
  text "M3" at 206.3,-78.74 h11.81
  text "M4" at 206.3,-39.37 h11.81
  text "N5" at 245.67,0 h11.81
  text "B7" at -187.4,78.74 h11.81
  text "M7" at 206.3,78.74 h11.81
  text "M8" at 206.3,118.11 h11.81
  text "D9" at -108.66,157.48 h11.81
  text "K3" at 127.56,-78.74 h11.81
  text "F2" at -29.92,-118.11 h11.81
  text "H9" at 48.82,157.48 h11.81
  text "G3" at 9.45,-78.74 h11.81
  text "B6" at -187.4,39.37 h11.81
  text "L7" at 166.93,78.74 h11.81
  text "C8" at -148.03,118.11 h11.81
  text "K2" at 127.56,-118.11 h11.81
  text "F9" at -29.92,157.48 h11.81
  text "H1" at 48.82,-157.48 h11.81
  text "A5" at -226.77,0 h11.81
  text "L8" at 166.93,118.11 h11.81
  text "A6" at -226.77,39.37 h11.81
  text "J2" at 88.19,-118.11 h11.81
  text "L9" at 166.93,157.48 h11.81
  text "H2" at 48.82,-118.11 h11.81
  text "J9" at 88.19,157.48 h11.81
  text "D1" at -108.66,-157.48 h11.81
  text "E3" at -69.29,-78.74 h11.81
  text "F3" at -29.92,-78.74 h11.81
  text "J3" at 88.19,-78.74 h11.81
  text "C6" at -148.03,39.37 h11.81
  text "C7" at -148.03,78.74 h11.81
  text "D7" at -108.66,78.74 h11.81
  text "E7" at -69.29,78.74 h11.81
  text "J7" at 88.19,78.74 h11.81
  text "B8" at -187.4,118.11 h11.81
  text "N2" at 245.67,-118.11 h11.81
  text "N1" at 245.67,-157.48 h11.81
  text "D4" at -108.66,-39.37 h11.81
  text "E4" at -69.29,-39.37 h11.81
  text "F4" at -29.92,-39.37 h11.81
  text "G4" at 9.45,-39.37 h11.81
  text "H4" at 48.82,-39.37 h11.81
  text "J4" at 88.19,-39.37 h11.81
  text "K4" at 127.56,-39.37 h11.81
  text "L4" at 166.93,-39.37 h11.81
  text "D5" at -108.66,0 h11.81
  text "E5" at -69.29,0 h11.81
  text "F5" at -29.92,0 h11.81
  text "G5" at 9.45,0 h11.81
  text "H5" at 48.82,0 h11.81
  text "J5" at 88.19,0 h11.81
  text "K5" at 127.56,0 h11.81
  text "L5" at 166.93,0 h11.81
  text "D6" at -108.66,39.37 h11.81
  text "E6" at -69.29,39.37 h11.81
  text "F6" at -29.92,39.37 h11.81
  text "G6" at 9.45,39.37 h11.81
  text "H6" at 48.82,39.37 h11.81
  text "J6" at 88.19,39.37 h11.81
  text "K6" at 127.56,39.37 h11.81
  text "L6" at 166.93,39.37 h11.81
  text "H7" at 48.82,78.74 h11.81
  text "N6" at 245.67,39.37 h11.81
  text "C9" at -148.03,157.48 h11.81
  text "A9" at -226.77,157.48 h11.81
  text "N3" at 245.67,-78.74 h11.81
  text "L1" at 166.93,-157.48 h11.81
  text "N8" at 245.67,118.11 h11.81
  text "N4" at 245.67,-39.37 h11.81
  text "N9" at 245.67,157.48 h11.81
  text "N7" at 245.67,78.74 h11.81
  text "K1" at 127.56,-157.48 h11.81
  text "C2" at -148.03,-118.11 h11.81
  text "L2" at 166.93,-118.11 h11.81
  text "B4" at -187.4,-39.37 h11.81
  text "F7" at -29.92,78.74 h11.81
  text "J8" at 88.19,118.11 h11.81
  text "B9" at -187.4,157.48 h11.81
  text "K9" at 127.56,157.48 h11.81
  text "L3" at 166.93,-78.74 h11.81
  text "M1" at 206.3,-157.48 h11.81
Mechanical 12:
  lines w1: -334.65,-255.91 -334.65,255.91 334.65,255.91 334.65,-255.91 -334.65,-255.91
Mechanical 15:
  region: -334.65,-255.91 334.65,-255.91 334.65,255.91 -334.65,255.91
3D body: height 150, standoff 0, extent -334.65,-255.91 334.65,255.91

## BGA_256P_39_669X669_H61 [mm] "BGA_256P_39_669X669_H61"
pads (256):
  round 0.5 smd: A1(-7.5,-7.5) A2(-7.5,-6.5) A3(-7.5,-5.5) A4(-7.5,-4.5) A5(-7.5,-3.5) A6(-7.5,-2.5) A7(-7.5,-1.5) A8(-7.5,-0.5) A9(-7.5,0.5) A10(-7.5,1.5) A11(-7.5,2.5) A12(-7.5,3.5) A13(-7.5,4.5) A14(-7.5,5.5) A15(-7.5,6.5) A16(-7.5,7.5) B1(-6.5,-7.5) B2(-6.5,-6.5) B3(-6.5,-5.5) B4(-6.5,-4.5) B5(-6.5,-3.5) B6(-6.5,-2.5) B7(-6.5,-1.5) B8(-6.5,-0.5) B9(-6.5,0.5) B10(-6.5,1.5) B11(-6.5,2.5) B12(-6.5,3.5) B13(-6.5,4.5) B14(-6.5,5.5) B15(-6.5,6.5) B16(-6.5,7.5) C1(-5.5,-7.5) C2(-5.5,-6.5) C3(-5.5,-5.5) C4(-5.5,-4.5) C5(-5.5,-3.5) C6(-5.5,-2.5) C7(-5.5,-1.5) C8(-5.5,-0.5) C9(-5.5,0.5) C10(-5.5,1.5) C11(-5.5,2.5) C12(-5.5,3.5) C13(-5.5,4.5) C14(-5.5,5.5) C15(-5.5,6.5) C16(-5.5,7.5) D1(-4.5,-7.5) D2(-4.5,-6.5) D3(-4.5,-5.5) D4(-4.5,-4.5) D5(-4.5,-3.5) D6(-4.5,-2.5) D7(-4.5,-1.5) D8(-4.5,-0.5) D9(-4.5,0.5) D10(-4.5,1.5) D11(-4.5,2.5) D12(-4.5,3.5) D13(-4.5,4.5) D14(-4.5,5.5) D15(-4.5,6.5) D16(-4.5,7.5) E1(-3.5,-7.5) E2(-3.5,-6.5) E3(-3.5,-5.5) E4(-3.5,-4.5) E5(-3.5,-3.5) E6(-3.5,-2.5) E7(-3.5,-1.5) E8(-3.5,-0.5) E9(-3.5,0.5) E10(-3.5,1.5) E11(-3.5,2.5) E12(-3.5,3.5) E13(-3.5,4.5) E14(-3.5,5.5) E15(-3.5,6.5) E16(-3.5,7.5) F1(-2.5,-7.5) F2(-2.5,-6.5) F3(-2.5,-5.5) F4(-2.5,-4.5) F5(-2.5,-3.5) F6(-2.5,-2.5) F7(-2.5,-1.5) F8(-2.5,-0.5) F9(-2.5,0.5) F10(-2.5,1.5) F11(-2.5,2.5) F12(-2.5,3.5) F13(-2.5,4.5) F14(-2.5,5.5) F15(-2.5,6.5) F16(-2.5,7.5) G1(-1.5,-7.5) G2(-1.5,-6.5) G3(-1.5,-5.5) G4(-1.5,-4.5) G5(-1.5,-3.5) G6(-1.5,-2.5) G7(-1.5,-1.5) G8(-1.5,-0.5) G9(-1.5,0.5) G10(-1.5,1.5) G11(-1.5,2.5) G12(-1.5,3.5) G13(-1.5,4.5) G14(-1.5,5.5) G15(-1.5,6.5) G16(-1.5,7.5) H1(-0.5,-7.5) H2(-0.5,-6.5) H3(-0.5,-5.5) H4(-0.5,-4.5) H5(-0.5,-3.5) H6(-0.5,-2.5) H7(-0.5,-1.5) H8(-0.5,-0.5) H9(-0.5,0.5) H10(-0.5,1.5) H11(-0.5,2.5) H12(-0.5,3.5) H13(-0.5,4.5) H14(-0.5,5.5) H15(-0.5,6.5) H16(-0.5,7.5) J1(0.5,-7.5) J2(0.5,-6.5) J3(0.5,-5.5) J4(0.5,-4.5) J5(0.5,-3.5) J6(0.5,-2.5) J7(0.5,-1.5) J8(0.5,-0.5) J9(0.5,0.5) J10(0.5,1.5) J11(0.5,2.5) J12(0.5,3.5) J13(0.5,4.5) J14(0.5,5.5) J15(0.5,6.5) J16(0.5,7.5) K1(1.5,-7.5) K2(1.5,-6.5) K3(1.5,-5.5) K4(1.5,-4.5) K5(1.5,-3.5) K6(1.5,-2.5) K7(1.5,-1.5) K8(1.5,-0.5) K9(1.5,0.5) K10(1.5,1.5) K11(1.5,2.5) K12(1.5,3.5) K13(1.5,4.5) K14(1.5,5.5) K15(1.5,6.5) K16(1.5,7.5) L1(2.5,-7.5) L2(2.5,-6.5) L3(2.5,-5.5) L4(2.5,-4.5) L5(2.5,-3.5) L6(2.5,-2.5) L7(2.5,-1.5) L8(2.5,-0.5) L9(2.5,0.5) L10(2.5,1.5) L11(2.5,2.5) L12(2.5,3.5) L13(2.5,4.5) L14(2.5,5.5) L15(2.5,6.5) L16(2.5,7.5) M1(3.5,-7.5) M2(3.5,-6.5) M3(3.5,-5.5) M4(3.5,-4.5) M5(3.5,-3.5) M6(3.5,-2.5) M7(3.5,-1.5) M8(3.5,-0.5) M9(3.5,0.5) M10(3.5,1.5) M11(3.5,2.5) M12(3.5,3.5) M13(3.5,4.5) M14(3.5,5.5) M15(3.5,6.5) M16(3.5,7.5) N1(4.5,-7.5) N2(4.5,-6.5) N3(4.5,-5.5) N4(4.5,-4.5) N5(4.5,-3.5) N6(4.5,-2.5) N7(4.5,-1.5) N8(4.5,-0.5) N9(4.5,0.5) N10(4.5,1.5) N11(4.5,2.5) N12(4.5,3.5) N13(4.5,4.5) N14(4.5,5.5) N15(4.5,6.5) N16(4.5,7.5) P1(5.5,-7.5) P2(5.5,-6.5) P3(5.5,-5.5) P4(5.5,-4.5) P5(5.5,-3.5) P6(5.5,-2.5) P7(5.5,-1.5) P8(5.5,-0.5) P9(5.5,0.5) P10(5.5,1.5) P11(5.5,2.5) P12(5.5,3.5) P13(5.5,4.5) P14(5.5,5.5) P15(5.5,6.5) P16(5.5,7.5) R1(6.5,-7.5) R2(6.5,-6.5) R3(6.5,-5.5) R4(6.5,-4.5) R5(6.5,-3.5) R6(6.5,-2.5) R7(6.5,-1.5) R8(6.5,-0.5) R9(6.5,0.5) R10(6.5,1.5) R11(6.5,2.5) R12(6.5,3.5) R13(6.5,4.5) R14(6.5,5.5) R15(6.5,6.5) R16(6.5,7.5) T1(7.5,-7.5) T2(7.5,-6.5) T3(7.5,-5.5) T4(7.5,-4.5) T5(7.5,-3.5) T6(7.5,-2.5) T7(7.5,-1.5) T8(7.5,-0.5) T9(7.5,0.5) T10(7.5,1.5) T11(7.5,2.5) T12(7.5,3.5) T13(7.5,4.5) T14(7.5,5.5) T15(7.5,6.5) T16(7.5,7.5)
via -1,4 diameter 0.559 hole 0.254
via 5,7 diameter 0.559 hole 0.254
via 1,7 diameter 0.559 hole 0.254
via -4,6 diameter 0.559 hole 0.254
via -5,-1 diameter 0.559 hole 0.254
via -6,-3 diameter 0.559 hole 0.254
via 6,0 diameter 0.559 hole 0.254
via 8,-3 diameter 0.559 hole 0.254
via 4,-7 diameter 0.559 hole 0.254
via 1,-4 diameter 0.559 hole 0.254
via -1,-7 diameter 0.559 hole 0.254
via -5,-7 diameter 0.559 hole 0.254
via -6,-2 diameter 0.559 hole 0.254
via -8,-2 diameter 0.559 hole 0.254
via -7,5 diameter 0.559 hole 0.254
via -4,-1 diameter 0.559 hole 0.254
via -7,1 diameter 0.559 hole 0.254
via -7,-4 diameter 0.559 hole 0.254
via 8,-4 diameter 0.559 hole 0.254
via -5,-4 diameter 0.559 hole 0.254
via -1,-8 diameter 0.559 hole 0.254
via 8,-1 diameter 0.559 hole 0.254
via 5,1 diameter 0.559 hole 0.254
via -4,-7 diameter 0.559 hole 0.254
via -4,-6 diameter 0.559 hole 0.254
via -2,-5 diameter 0.559 hole 0.254
via -3,-6 diameter 0.559 hole 0.254
via 3,-7 diameter 0.559 hole 0.254
via 8.382,6.604 diameter 0.559 hole 0.254
via 8.382,5.588 diameter 0.559 hole 0.254
via -3,6 diameter 0.559 hole 0.254
via -1,6 diameter 0.559 hole 0.254
via -3,5 diameter 0.559 hole 0.254
via 2,-8 diameter 0.559 hole 0.254
via 1,5 diameter 0.559 hole 0.254
via 6,-8 diameter 0.559 hole 0.254
via 5,-1 diameter 0.559 hole 0.254
via 3,5 diameter 0.559 hole 0.254
via -2,2 diameter 0.559 hole 0.254
via 2,6 diameter 0.559 hole 0.254
via -6,7 diameter 0.559 hole 0.254
via -1,-4 diameter 0.559 hole 0.254
via -5,2 diameter 0.559 hole 0.254
via -5,3 diameter 0.559 hole 0.254
via 6,6 diameter 0.559 hole 0.254
via 8,8 diameter 0.559 hole 0.254
via -2,7 diameter 0.559 hole 0.254
via 3,7 diameter 0.559 hole 0.254
via -6,6 diameter 0.559 hole 0.254
via -8,8 diameter 0.559 hole 0.254
via 4,4 diameter 0.559 hole 0.254
via 2,3 diameter 0.559 hole 0.254
via -4,4 diameter 0.559 hole 0.254
via -1,2 diameter 0.559 hole 0.254
via -7,3 diameter 0.559 hole 0.254
via 7,-3 diameter 0.559 hole 0.254
via 0,1 diameter 0.559 hole 0.254
via 2,1 diameter 0.559 hole 0.254
via 1,-1 diameter 0.559 hole 0.254
via 2,-2 diameter 0.559 hole 0.254
via -2,-1 diameter 0.559 hole 0.254
via -7,-2 diameter 0.559 hole 0.254
via 4,-4 diameter 0.559 hole 0.254
via 6,-6 diameter 0.559 hole 0.254
via 8,-8 diameter 0.559 hole 0.254
via 2,-7 diameter 0.559 hole 0.254
via -3,-7 diameter 0.559 hole 0.254
via -4,-4 diameter 0.559 hole 0.254
via -3,-3 diameter 0.559 hole 0.254
via -6,-6 diameter 0.559 hole 0.254
via -8,-8 diameter 0.559 hole 0.254
via 2,-6 diameter 0.559 hole 0.254
via 6,-1 diameter 0.559 hole 0.254
via 3,-6 diameter 0.559 hole 0.254
via 4,-8 diameter 0.559 hole 0.254
via -5,-6 diameter 0.559 hole 0.254
via 5,-8 diameter 0.559 hole 0.254
via -8,3 diameter 0.559 hole 0.254
via 3,-1 diameter 0.559 hole 0.254
via -2,5 diameter 0.559 hole 0.254
via 4,6 diameter 0.559 hole 0.254
via 4,5 diameter 0.559 hole 0.254
via -4,5 diameter 0.559 hole 0.254
via 1,-6 diameter 0.559 hole 0.254
via -1,-5 diameter 0.559 hole 0.254
via -3,-8 diameter 0.559 hole 0.254
via -7,2 diameter 0.559 hole 0.254
via -2,-2 diameter 0.559 hole 0.254
via 2,-1 diameter 0.559 hole 0.254
via 2,2 diameter 0.559 hole 0.254
via 1,1 diameter 0.559 hole 0.254
via -1,-1 diameter 0.559 hole 0.254
via -1,1 diameter 0.559 hole 0.254
via 6,-7 diameter 0.559 hole 0.254
via 5,-7 diameter 0.559 hole 0.254
via 6,4 diameter 0.559 hole 0.254
via 9.906,-2.921 diameter 0.559 hole 0.254
via 4,8 diameter 0.559 hole 0.254
via 2,5 diameter 0.559 hole 0.254
via 4,7 diameter 0.559 hole 0.254
via 3,8 diameter 0.559 hole 0.254
via 3,6 diameter 0.559 hole 0.254
via 5,-4 diameter 0.559 hole 0.254
via -7,-7 diameter 0.559 hole 0.254
via -7,8 diameter 0.559 hole 0.254
via -7,-8 diameter 0.559 hole 0.254
via -6,3 diameter 0.559 hole 0.254
via 5,6 diameter 0.559 hole 0.254
via -6,2 diameter 0.559 hole 0.254
via 6,7 diameter 0.559 hole 0.254
via 7,7 diameter 0.559 hole 0.254
via -4,-2 diameter 0.559 hole 0.254
via -6,-7 diameter 0.559 hole 0.254
via 5,8 diameter 0.559 hole 0.254
via -3,-1 diameter 0.559 hole 0.254
via -5,-2 diameter 0.559 hole 0.254
via -6,-4 diameter 0.559 hole 0.254
via -6,-8 diameter 0.559 hole 0.254
via -6,-5 diameter 0.559 hole 0.254
via 7,4 diameter 0.559 hole 0.254
via 4,1 diameter 0.559 hole 0.254
via 7,-5 diameter 0.559 hole 0.254
via 7,0 diameter 0.559 hole 0.254
via 2,4 diameter 0.559 hole 0.254
via -4,3 diameter 0.559 hole 0.254
via 4,-3 diameter 0.559 hole 0.254
via -3,-4 diameter 0.559 hole 0.254
via -5,-5 diameter 0.559 hole 0.254
via -4,-8 diameter 0.559 hole 0.254
via -2,-8 diameter 0.559 hole 0.254
via -2,-7 diameter 0.559 hole 0.254
via 5,-5 diameter 0.559 hole 0.254
via 6,-5 diameter 0.559 hole 0.254
via -6,4 diameter 0.559 hole 0.254
via -6,1 diameter 0.559 hole 0.254
via 7,1 diameter 0.559 hole 0.254
via 4,2 diameter 0.559 hole 0.254
via -3,2 diameter 0.559 hole 0.254
via 8,-7 diameter 0.559 hole 0.254
via 7,-4 diameter 0.559 hole 0.254
via 5,-2 diameter 0.559 hole 0.254
via -2,-6 diameter 0.559 hole 0.254
via -5,5 diameter 0.559 hole 0.254
via 3,3 diameter 0.559 hole 0.254
via 5,5 diameter 0.559 hole 0.254
Top Layer:
  lines w0.137: -8,-2 -7.5,-1.5 ; -8,3 -7.5,2.5 ; -7,-8 -6.5,-7.5 ; -7,-7 -6.5,-6.5 ; -7,8 -6.5,7.5 ; -6,-8 -5.5,-7.5 ; -6,-7 -5.5,-6.5 ; -6,-5 -5.5,-4.5 ; -6,-4 -5.5,-3.5 ; -6,-3 -5.5,-2.5 ; -6,-2 -5.5,-1.5 ; -6,2 -5.5,1.5 ; -6,3 -5.5,2.5 ; -6,7 -5.5,6.5 ; -5,-7 -4.5,-6.5 ; -5,-6 -4.5,-5.5 ; -5,-5 -4.5,-4.5 ; -5,-4 -4.5,-3.5 ; -5,-2 -4.5,-1.5 ; -5,-1 -4.5,-0.5 ; -5,2 -4.5,1.5 ; -5,3 -4.5,2.5 ; -4,-8 -3.5,-7.5 ; -4,-7 -3.5,-6.5 ; -4,-6 -3.5,-5.5 ; -4,-2 -3.5,-1.5 ; -4,5 -3.5,4.5 ; -3.5,1.5 -3,2 ; -3,-8 -2.5,-7.5 ; -3,-6 -2.5,-5.5 ; -3,-1 -2.5,-0.5 ; -3,5 -2.5,4.5 ; -3,6 -3,6 -2.5,6.5 ; -2.5,1.5 -2,2 ; -2,-8 -1.5,-7.5 ; -2,-7 -1.5,-6.5 ; -2,-6 -1.5,-5.5 ; -2,-5 -1.5,-4.5 ; -2,5 -1.5,4.5 ; -1,-8 -0.5,-7.5 ; -1,-7 -0.5,-6.5 ; -1,-5 -0.5,-4.5 ; -1,-4 -0.5,-3.5 ; -1,6 -0.5,5.5 ; 0.5,-5.5 1,-6 ; 0.5,-3.5 1,-4 ; 0.5,4.5 1,5 ; 1.5,-7.5 2,-8 ; 1.5,-5.5 2,-6 ; 1.5,5.5 2,6 ; 2.5,-6.5 3,-7 ; 2.5,-5.5 3,-6 ; 2.5,-1.5 3,-1 3,-1 ; 2.5,5.5 3,6 ; 2.5,7.5 3,8 ; 3.5,-7.5 4,-8 ; 3.5,-6.5 4,-7 ; 3.5,1.5 4,2 ; 3.5,5.5 4,6 ; 3.5,6.5 4,7 ; 3.5,7.5 4,8 ; 4.5,-7.5 5,-8 ; 4.5,-6.5 5,-7 ; 4.5,-4.5 5,-5 ; 4.5,-1.5 5,-2 ; 4.5,-0.5 5,-1 ; 4.5,5.5 5,6 ; 4.5,7.5 5,8 ; 5.5,-7.5 6,-8 ; 5.5,-6.5 6,-7 ; 5.5,-4.5 6,-5 ; 5.5,-3.5 5,-4 ; 5.5,-1.5 6,-1 6,-1 ; 5.5,3.5 6,4 ; 5.5,6.5 6,7 ; 6.5,-3.5 7,-4 ; 6.5,0.5 7,1 ; 6.5,6.5 7,7 ; 7.5,-6.5 8,-7 ; 7.5,-3.5 8,-4 ; 7.5,-2.5 8,-3 ; -3,2 -3,2 ; -2,2 -2,2 ; 5,-4 5,-4
  lines w0.305: -4,6 -4,6 -3.5,6.5 ; -1,4 -0.5,3.5 ; 0.5,6.5 1,7 ; 4.5,6.5 5,7
  lines w0.381: -8,-8 -7.5,-7.5 ; -8,8 -7.5,7.5 ; -7,-2 -6.5,-1.5 ; -7,3 -6.5,2.5 ; -6,-6 -5.5,-5.5 ; -6,6 -5.5,5.5 ; -4,-4 -3.5,-3.5 ; -4,4 -3.5,3.5 ; -3,-7 -2.5,-6.5 ; -3,-3 -2.5,-2.5 ; -2,-2 -1.5,-1.5 ; -2,-1 -1.5,-0.5 ; -2,7 -1.5,6.5 ; -1,2 -1,2 ; -1,-1 -0.5,-0.5 ; 0.5,-0.5 1,-1 ; 0.5,0.5 1,1 ; 1.5,-6.5 2,-7 ; 1.5,-1.5 2,-2 ; 1.5,-0.5 2,-1 ; 1.5,0.5 2,1 ; 1.5,1.5 2,2 ; 2.5,6.5 3,7 ; 3.5,-3.5 4,-4 ; 3.5,3.5 4,4 ; 5.5,-5.5 6,-6 ; 5.5,5.5 6,6 ; 6.5,-2.5 7,-3 ; 7.5,-7.5 8,-8 ; 7.5,7.5 8,8
Top Overlay:
  lines w0.254: -9.906,-9.525 -9.525,-9.906 ; -9.906,-9.271 -9.271,-9.906 ; -9.906,-9.017 -9.017,-9.906 ; -9.906,-8.763 -8.763,-9.906 ; -9.906,-8.509 -8.509,-9.906 ; -9.906,-8.255 -8.255,-9.906 ; -9.906,-8.001 -8.001,-9.906 ; -9.144,-9.144 -10,-10 ; -10,-10 10,-10 10,-9.365 10,10 9.365,10 -10,10 -10,9.365 -10,-10 ; -8.5,-8.5 -8.5,8.5 8.5,8.5 8.5,-8.5 -8.5,-8.5
  text ".Designator" at -1.168,-11.43 h0.76
  text "T" at 7.366,-9.652 h0.76
  text "R" at 6.35,-9.652 h0.76
  text "P" at 5.334,-9.652 h0.76
  text "N" at 4.318,-9.652 h0.76
  text "M" at 3.302,-9.652 h0.76
  text "L" at 2.286,-9.652 h0.76
  text "K" at 1.27,-9.652 h0.76
  text "J" at 0.254,-9.652 h0.76
  text "H" at -0.762,-9.652 h0.76
  text "G" at -1.778,-9.652 h0.76
  text "F" at -2.794,-9.652 h0.76
  text "E" at -3.81,-9.652 h0.76
  text "D" at -4.826,-9.652 h0.76
  text "C" at -5.842,-9.652 h0.76
  text "B" at -6.858,-9.652 h0.76
  text "A" at -7.874,-9.652 h0.76
  text "16" at -9.931,7.493 h0.64
  text "15" at -9.931,6.477 h0.64
  text "14" at -9.931,5.461 h0.64
  text "13" at -9.931,4.445 h0.64
  text "12" at -9.931,3.429 h0.64
  text "11" at -9.931,2.413 h0.64
  text "10" at -9.931,1.397 h0.64
  text "9" at -9.398,0.254 h0.64
  text "8" at -9.398,-0.762 h0.64
  text "7" at -9.398,-1.778 h0.64
  text "6" at -9.398,-2.794 h0.64
  text "5" at -9.398,-3.81 h0.64
  text "4" at -9.398,-4.826 h0.64
  text "3" at -9.398,-5.842 h0.64
  text "2" at -9.398,-6.858 h0.64
  text "1" at -9.398,-7.874 h0.64
Mechanical 1:
  lines w0.025: -8.509,-8.509 -8.509,8.509 8.509,8.509 8.509,-8.509 -8.509,-8.509
Mechanical 11:
  text "P16" at 4.891,7.5 h0.51
  text "K13" at 0.891,4.5 h0.51
  text "J12" at -0.109,3.5 h0.51
  text "K15" at 0.891,6.5 h0.51
  text "K16" at 0.891,7.5 h0.51
  text "F14" at -3.11,5.5 h0.51
  text "E14" at -4.11,5.5 h0.51
  text "D14" at -5.11,5.5 h0.51
  text "D6" at -4.907,-2.5 h0.51
  text "D12" at -5.11,3.5 h0.51
  text "E6" at -3.907,-2.5 h0.51
  text "F7" at -2.907,-1.5 h0.51
  text "F9" at -2.907,0.5 h0.51
  text "E9" at -3.907,0.5 h0.51
  text "K12" at 0.891,3.5 h0.51
  text "K11" at 0.891,2.5 h0.51
  text "J11" at -0.109,2.5 h0.51
  text "J10" at -0.109,1.5 h0.51
  text "H11" at -1.11,2.5 h0.51
  text "H10" at -1.11,1.5 h0.51
  text "G11" at -2.11,2.5 h0.51
  text "G12" at -2.11,3.5 h0.51
  text "F11" at -3.11,2.5 h0.51
  text "F12" at -3.11,3.5 h0.51
  text "H6" at -0.907,-2.5 h0.51
  text "M3" at 3.094,-5.5 h0.51
  text "R1" at 6.094,-7.5 h0.51
  text "M4" at 3.094,-4.5 h0.51
  text "N3" at 4.094,-5.5 h0.51
  text "L8" at 2.094,-0.5 h0.51
  text "L9" at 2.094,0.5 h0.51
  text "M7" at 3.094,-1.5 h0.51
  text "M11" at 2.891,2.5 h0.51
  text "F4" at -2.907,-4.5 h0.51
  text "E4" at -3.907,-4.5 h0.51
  text "G5" at -1.907,-3.5 h0.51
  text "G6" at -1.907,-2.5 h0.51
  text "J7" at 0.094,-1.5 h0.51
  text "H7" at -0.907,-1.5 h0.51
  text "K6" at 1.094,-2.5 h0.51
  text "K5" at 1.094,-3.5 h0.51
  text "L6" at 2.094,-2.5 h0.51
  text "L5" at 2.094,-3.5 h0.51
  text "H12" at -1.11,3.5 h0.51
  text "E15" at -4.11,6.5 h0.51
  text "J15" at -0.109,6.5 h0.51
  text "N15" at 3.891,6.5 h0.51
  text "T13" at 6.891,4.5 h0.51
  text "P11" at 4.891,2.5 h0.51
  text "R11" at 5.891,2.5 h0.51
  text "R7" at 6.094,-1.5 h0.51
  text "D8" at -4.907,-0.5 h0.51
  text "B4" at -6.907,-4.5 h0.51
  text "B3" at -6.907,-5.5 h0.51
  text "A4" at -7.907,-4.5 h0.51
  text "A3" at -7.907,-5.5 h0.51
  text "B6" at -6.907,-2.5 h0.51
  text "A6" at -7.907,-2.5 h0.51
  text "J1" at 0.094,-7.5 h0.51
  text "C6" at -5.907,-2.5 h0.51
  text "P8" at 5.094,-0.5 h0.51
  text "J2" at 0.094,-6.5 h0.51
  text "T6" at 7.094,-2.5 h0.51
  text "R3" at 6.094,-5.5 h0.51
  text "T12" at 6.891,3.5 h0.51
  text "P9" at 5.094,0.5 h0.51
  text "H3" at -0.907,-5.5 h0.51
  text "J5" at 0.094,-3.5 h0.51
  text "D2" at -4.907,-6.5 h0.51
  text "H2" at -0.907,-6.5 h0.51
  text "M2" at 3.094,-6.5 h0.51
  text "C7" at -5.907,-1.5 h0.51
  text "A7" at -7.907,-1.5 h0.51
  text "B13" at -7.11,4.5 h0.51
  text "B9" at -6.907,0.5 h0.51
  text "E8" at -3.907,-0.5 h0.51
  text "B5" at -6.907,-3.5 h0.51
  text "T5" at 7.094,-3.5 h0.51
  text "D5" at -4.907,-3.5 h0.51
  text "H1" at -0.907,-7.5 h0.51
  text "T8" at 7.094,-0.5 h0.51
  text "N9" at 4.094,0.5 h0.51
  text "E2" at -3.907,-6.5 h0.51
  text "R16" at 5.891,7.5 h0.51
  text "E3" at -3.907,-5.5 h0.51
  text "G4" at -1.907,-4.5 h0.51
  text "F3" at -2.907,-5.5 h0.51
  text "L1" at 2.094,-7.5 h0.51
  text "L2" at 2.094,-6.5 h0.51
  text "T9" at 7.094,0.5 h0.51
  text "R14" at 5.891,5.5 h0.51
  text "T14" at 6.891,5.5 h0.51
  text "F15" at -3.11,6.5 h0.51
  text "H14" at -1.11,5.5 h0.51
  text "F13" at -3.11,4.5 h0.51
  text "K1" at 1.094,-7.5 h0.51
  text "J13" at -0.109,4.5 h0.51
  text "P1" at 5.094,-7.5 h0.51
  text "N8" at 4.094,-0.5 h0.51
  text "M13" at 2.891,4.5 h0.51
  text "F10" at -3.11,1.5 h0.51
  text "K14" at 0.891,5.5 h0.51
  text "C15" at -6.11,6.5 h0.51
  text "B14" at -7.11,5.5 h0.51
  text "H5" at -0.907,-3.5 h0.51
  text "B15" at -7.11,6.5 h0.51
  text "D10" at -5.11,1.5 h0.51
  text "D11" at -5.11,2.5 h0.51
  text "A13" at -8.11,4.5 h0.51
  text "A16" at -8.11,7.5 h0.51
  text "T16" at 6.891,7.5 h0.51
  text "G15" at -2.11,6.5 h0.51
  text "L15" at 1.891,6.5 h0.51
  text "C14" at -6.11,5.5 h0.51
  text "P14" at 4.891,5.5 h0.51
  text "E12" at -4.11,3.5 h0.51
  text "M12" at 2.891,3.5 h0.51
  text "B11" at -7.11,2.5 h0.51
  text "L11" at 1.891,2.5 h0.51
  text "G10" at -2.11,1.5 h0.51
  text "R10" at 5.891,1.5 h0.51
  text "H9" at -0.907,0.5 h0.51
  text "K9" at 1.094,0.5 h0.51
  text "G8" at -1.907,-0.5 h0.51
  text "J8" at 0.094,-0.5 h0.51
  text "B7" at -6.907,-1.5 h0.51
  text "K7" at 1.094,-1.5 h0.51
  text "F6" at -2.907,-2.5 h0.51
  text "R6" at 6.094,-2.5 h0.51
  text "E5" at -3.907,-3.5 h0.51
  text "M5" at 3.094,-3.5 h0.51
  text "C3" at -5.907,-5.5 h0.51
  text "P3" at 5.094,-5.5 h0.51
  text "F2" at -2.907,-6.5 h0.51
  text "K2" at 1.094,-6.5 h0.51
  text "A1" at -7.907,-7.5 h0.51
  text "T1" at 7.094,-7.5 h0.51
  text "K3" at 1.094,-5.5 h0.51
  text "P7" at 5.094,-1.5 h0.51
  text "F16" at -3.11,7.5 h0.51
  text "L3" at 2.094,-5.5 h0.51
  text "M1" at 3.094,-7.5 h0.51
  text "D3" at -4.907,-5.5 h0.51
  text "N1" at 4.094,-7.5 h0.51
  text "A11" at -8.11,2.5 h0.51
  text "L7" at 2.094,-1.5 h0.51
  text "G13" at -2.11,4.5 h0.51
  text "M14" at 2.891,5.5 h0.51
  text "R13" at 5.891,4.5 h0.51
  text "N13" at 3.891,4.5 h0.51
  text "E16" at -4.11,7.5 h0.51
  text "E13" at -4.11,4.5 h0.51
  text "J3" at 0.094,-5.5 h0.51
  text "H4" at -0.907,-4.5 h0.51
  text "D16" at -5.11,7.5 h0.51
  text "C16" at -6.11,7.5 h0.51
  text "A8" at -7.907,-0.5 h0.51
  text "F1" at -2.907,-7.5 h0.51
  text "B10" at -7.11,1.5 h0.51
  text "D15" at -5.11,6.5 h0.51
  text "K10" at 0.891,1.5 h0.51
  text "G9" at -1.907,0.5 h0.51
  text "J9" at 0.094,0.5 h0.51
  text "H8" at -0.907,-0.5 h0.51
  text "K8" at 1.094,-0.5 h0.51
  text "G7" at -1.907,-1.5 h0.51
  text "A2" at -7.907,-6.5 h0.51
  text "P2" at 5.094,-6.5 h0.51
  text "N2" at 4.094,-6.5 h0.51
  text "P12" at 4.891,3.5 h0.51
  text "T4" at 7.094,-4.5 h0.51
  text "T15" at 6.891,6.5 h0.51
  text "M16" at 2.891,7.5 h0.51
  text "L13" at 1.891,4.5 h0.51
  text "M15" at 2.891,6.5 h0.51
  text "L16" at 1.891,7.5 h0.51
  text "T3" at 7.094,-5.5 h0.51
  text "L14" at 1.891,5.5 h0.51
  text "P5" at 5.094,-3.5 h0.51
  text "N6" at 4.094,-2.5 h0.51
  text "B2" at -6.907,-6.5 h0.51
  text "A15" at -8.11,6.5 h0.51
  text "B16" at -7.11,7.5 h0.51
  text "B1" at -6.907,-7.5 h0.51
  text "C11" at -6.11,2.5 h0.51
  text "N14" at 3.891,5.5 h0.51
  text "C10" at -6.11,1.5 h0.51
  text "C8" at -5.907,-0.5 h0.51
  text "P15" at 4.891,6.5 h0.51
  text "B8" at -6.907,-0.5 h0.51
  text "R15" at 5.891,6.5 h0.51
  text "E7" at -3.907,-1.5 h0.51
  text "C2" at -5.907,-6.5 h0.51
  text "N16" at 3.891,7.5 h0.51
  text "F8" at -2.907,-0.5 h0.51
  text "D7" at -4.907,-1.5 h0.51
  text "C5" at -5.907,-3.5 h0.51
  text "C1" at -5.907,-7.5 h0.51
  text "A5" at -7.907,-3.5 h0.51
  text "C4" at -5.907,-4.5 h0.51
  text "R12" at 5.891,3.5 h0.51
  text "M9" at 3.094,0.5 h0.51
  text "R8" at 6.094,-0.5 h0.51
  text "R4" at 6.094,-4.5 h0.51
  text "L12" at 1.891,3.5 h0.51
  text "E11" at -4.11,2.5 h0.51
  text "M6" at 3.094,-2.5 h0.51
  text "F5" at -2.907,-3.5 h0.51
  text "D4" at -4.907,-4.5 h0.51
  text "E1" at -3.907,-7.5 h0.51
  text "R2" at 6.094,-6.5 h0.51
  text "G1" at -1.907,-7.5 h0.51
  text "G2" at -1.907,-6.5 h0.51
  text "N4" at 4.094,-4.5 h0.51
  text "P4" at 5.094,-4.5 h0.51
  text "B12" at -7.11,3.5 h0.51
  text "C9" at -5.907,0.5 h0.51
  text "R9" at 6.094,0.5 h0.51
  text "M10" at 2.891,1.5 h0.51
  text "E10" at -4.11,1.5 h0.51
  text "T2" at 7.094,-6.5 h0.51
  text "R5" at 6.094,-3.5 h0.51
  text "N7" at 4.094,-1.5 h0.51
  text "T7" at 7.094,-1.5 h0.51
  text "G3" at -1.907,-5.5 h0.51
  text "T11" at 6.891,2.5 h0.51
  text "L10" at 1.891,1.5 h0.51
  text "M8" at 3.094,-0.5 h0.51
  text "N5" at 4.094,-3.5 h0.51
  text "D13" at -5.11,4.5 h0.51
  text "J14" at -0.109,5.5 h0.51
  text "G16" at -2.11,7.5 h0.51
  text "H16" at -1.11,7.5 h0.51
  text "G14" at -2.11,5.5 h0.51
  text "H15" at -1.11,6.5 h0.51
  text "H13" at -1.11,4.5 h0.51
  text "D1" at -4.907,-7.5 h0.51
  text "J16" at -0.109,7.5 h0.51
  text "C13" at -6.11,4.5 h0.51
  text "C12" at -6.11,3.5 h0.51
  text "N11" at 3.891,2.5 h0.51
  text "P13" at 4.891,4.5 h0.51
  text "P6" at 5.094,-2.5 h0.51
  text "N10" at 3.891,1.5 h0.51
  text "N12" at 3.891,3.5 h0.51
  text "D9" at -4.907,0.5 h0.51
  text "A9" at -7.907,0.5 h0.51
  text "A10" at -8.11,1.5 h0.51
  text "J4" at 0.094,-4.5 h0.51
  text "J6" at 0.094,-2.5 h0.51
  text "T10" at 6.891,1.5 h0.51
  text "L4" at 2.094,-4.5 h0.51
  text "K4" at 1.094,-4.5 h0.51
  text "A12" at -8.11,3.5 h0.51
  text "A14" at -8.11,5.5 h0.51
  text "P10" at 4.891,1.5 h0.51
Mechanical 15:
  lines w0.025: -10,-10 -10,10 10,10 10,-10 -10,-10
Mechanical 16:
  pour cut-out: -10,10 10,10 10,-10 -10,-10

## C0402 [mm] "C0402"
pads (2):
  oct 0.635x0.635 smd: 1(-0.5,0) 2(0.5,0)
Top Overlay:
  lines w0.15: -0.5,-0.5 -1,-0.5 -1,0.5 -0.5,0.5 ; 0.5,-0.5 1,-0.5 1,0.5 0.5,0.5
Mechanical 11:
  text "1" at -0.38,0 h0.3
  text "2" at 0.62,0 h0.3
Mechanical 15:
  region: -0.889,-0.381 0.889,-0.381 0.889,0.381 -0.889,0.381
Mechanical 16:
  lines w0.025: -0.5,-0.25 -0.5,0.25 0.5,0.25 0.5,-0.25 -0.5,-0.25
3D body: height 3.81, standoff 0, extent -0.889,-0.381 0.889,0.381

## C0603 [mil] "C0603"
pads (2):
  oval 40x32 smd: 1(0,32.5) 2(0,-32.5)
Top Overlay:
  lines w10: -28,-46.5 ccw(c-18,-46.5) -18,-56.5 18,-56.5 ccw(c18,-46.5) 28,-46.5 28,46.5 ccw(c18,46.5) 18,56.5 -18,56.5 ccw(c-18,46.5) -28,46.5 -28,-46.5 ; -15,-7.5 15,-7.5 15,7.5 -15,7.5 -15,-7.5
Mechanical 11:
  text "2" at 4.72,-32.5 h11.81
  text "1" at 4.72,32.5 h11.81
Mechanical 12:
  lines w1: -17.13,-33.46 17.13,-33.46 17.13,33.46 -17.13,33.46 -17.13,-33.46
Mechanical 15:
  region: -17.13,-33.46 17.13,-33.46 17.13,33.46 -17.13,33.46
3D body: height 150, standoff 0, extent -17.13,-33.46 17.13,33.46

## C0805 [mil] "C0805"
pads (2):
  oval 70x35 smd: 1(0,-40) 2(0,40)
Top Overlay:
  lines w10: -43,-45.5 ccw(c-23,-45.5) -23,-65.5 23,-65.5 ccw(c23,-45.5) 43,-45.5 43,45.5 ccw(c23,45.5) 23,65.5 -23,65.5 ccw(c-23,45.5) -43,45.5 -43,-45.5 ; -25,-10 -25,10 25,10 25,-10 -25,-10
Mechanical 11:
  text "1" at 4.72,-40 h11.81
  text "2" at 4.72,40 h11.81
Mechanical 15:
  region: -24.61,-39.37 24.61,-39.37 24.61,39.37 -24.61,39.37
3D body: height 150, standoff 0, extent -24.61,-39.37 24.61,39.37